# Altium footprint library balenaFinLib.PcbLib: 75 footprints (part 5 of 5)
Each footprint in its own frame and in the unit in brackets; x right, y up, seen from the top. Pads: shape width x height; smd on the part's side, far side on the other; paste and mask are expansions set on the pad; w line width, h text height; cw(c..) or ccw(c..) is an arc to the next point about the centre after c.
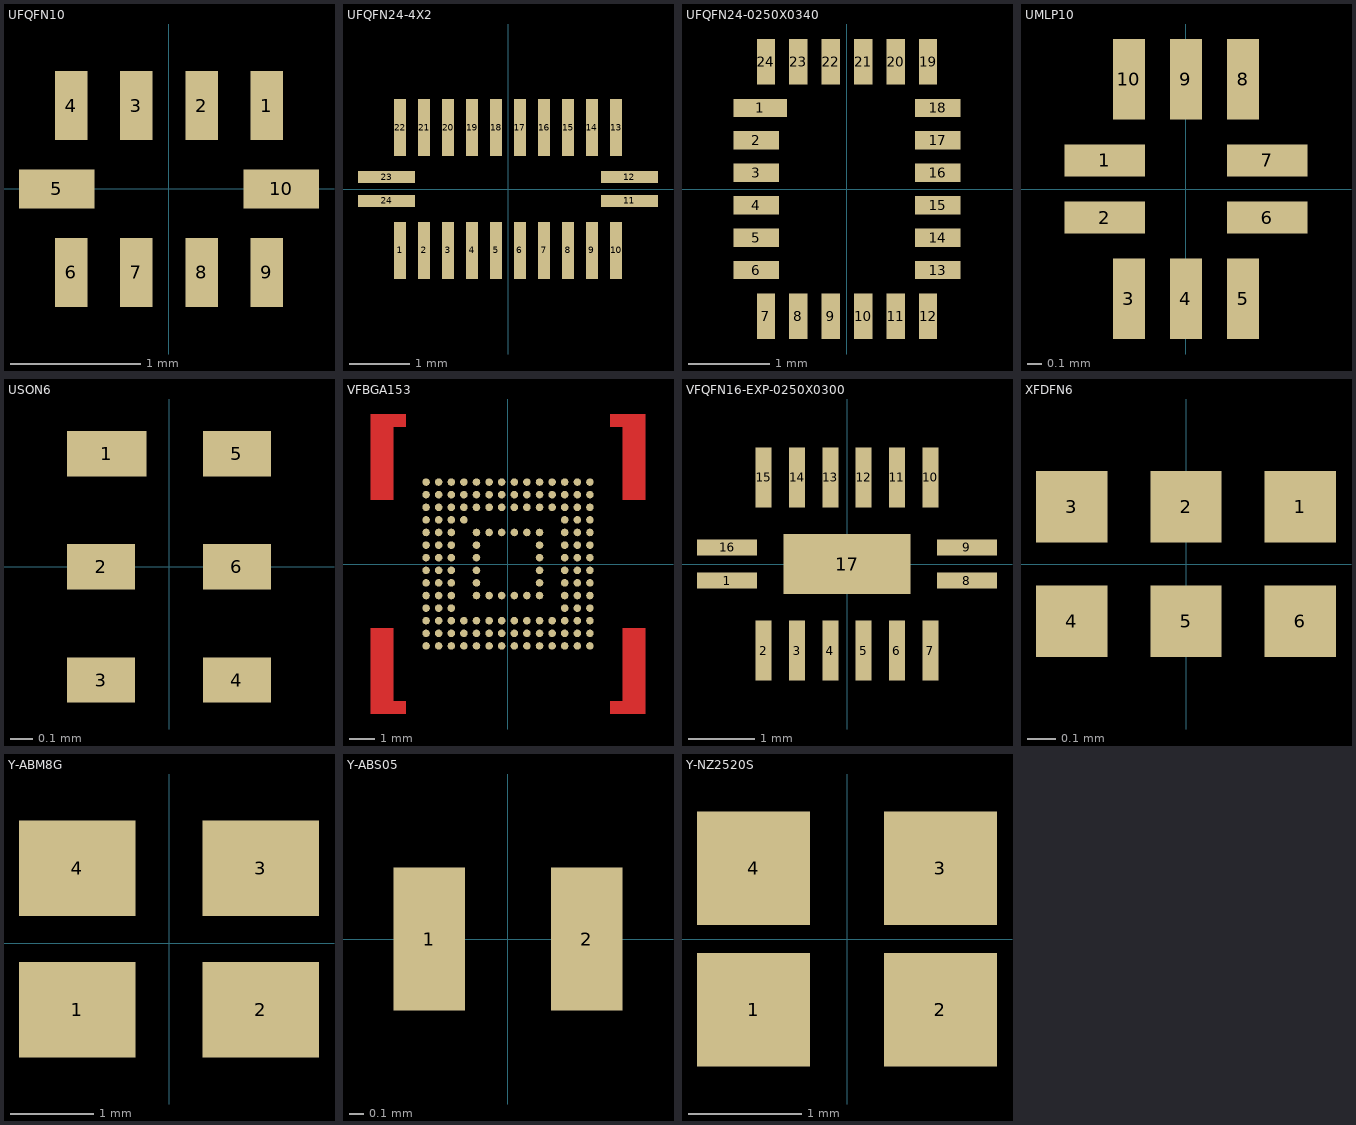
[diagram p4: the footprints below, top view; thin cyan lines are the x and y axes]

## UFQFN10 [mm]
pads (10):
  rect 0.25x0.53 smd mask+0.13: 1(0.75,0.64) 2(0.25,0.64) 3(-0.25,0.64) 4(-0.75,0.64) 6(-0.75,-0.64) 7(-0.25,-0.64) 8(0.25,-0.64) 9(0.75,-0.64)
  rect 0.58x0.3 smd mask+0.13: 5(-0.86,0) 10(0.86,0)
Mechanical 46:
  text "10" at 0.86,0.06 h0.2
  text "5" at -0.86,-0.02 h0.2
  text "9" at 0.75,-0.66 h0.2
  text "4" at -0.75,0.62 h0.2
  text "1" at 0.75,0.62 h0.2
  text "2" at 0.25,0.62 h0.2
  text "3" at -0.25,0.62 h0.2
  text "6" at -0.75,-0.66 h0.2
  text "8" at 0.25,-0.66 h0.2
  text "7" at -0.25,-0.66 h0.2
3D body: height 3.81, standoff 0, extent -1.225,-0.975 1.225,0.975

## UFQFN24-4X2 [mm]
pads (24):
  rect 0.2x0.95 smd: 1(-1.8,-1.025) 2(-1.4,-1.025) 3(-1,-1.025) 4(-0.6,-1.025) 5(-0.2,-1.025) 6(0.2,-1.025) 7(0.6,-1.025) 8(1,-1.025) 9(1.4,-1.025) 10(1.8,-1.025) 13(1.8,1.025) 14(1.4,1.025) 15(1,1.025) 16(0.6,1.025) 17(0.2,1.025) 18(-0.2,1.025) 19(-0.6,1.025) 20(-1,1.025) 21(-1.4,1.025) 22(-1.8,1.025)
  rect 0.95x0.2 smd mask+0.15: 11(2.025,-0.2) 12(2.025,0.2) 23(-2.025,0.2) 24(-2.025,-0.2)
Mechanical 46:
  text "10" at 1.9,-1.214 h0.2
  text "24" at -2.037,-0.254 h0.2
  text "23" at -2.037,0.146 h0.2
  text "12" at 2.031,-0.042 h0.2
  text "11" at 2.031,-0.442 h0.2
  text "4" at -0.5,-1.134 h0.2
  text "13" at 1.882,0.871 h0.2
  text "5" at -0.1,-1.134 h0.2
  text "18" at -0.118,0.871 h0.2
  text "14" at 1.482,0.871 h0.2
  text "15" at 1.082,0.871 h0.2
  text "16" at 0.682,0.871 h0.2
  text "17" at 0.282,0.871 h0.2
  text "19" at -0.518,0.871 h0.2
  text "20" at -0.918,0.871 h0.2
  text "21" at -1.318,0.871 h0.2
  text "22" at -1.718,0.871 h0.2
  text "3" at -0.9,-1.134 h0.2
  text "2" at -1.3,-1.134 h0.2
  text "1" at -1.7,-1.134 h0.2
  text "9" at 1.5,-1.134 h0.2
  text "8" at 1.1,-1.134 h0.2
  text "7" at 0.7,-1.134 h0.2
  text "6" at 0.3,-1.134 h0.2
3D body: height 3.81, standoff 0, extent -2.55,-1.55 2.55,1.55

## UFQFN24-0250X0340 [mm]
pads (24):
  rect 0.663x0.225 smd: 1(-1.068,1)
  rect 0.563x0.225 smd: 2(-1.118,0.6) 3(-1.118,0.2) 4(-1.118,-0.2) 5(-1.118,-0.6) 6(-1.118,-1) 13(1.119,-1) 14(1.119,-0.6) 15(1.119,-0.2) 16(1.119,0.2) 17(1.119,0.6) 18(1.119,1)
  rect 0.225x0.563 smd: 7(-1,-1.568) 8(-0.6,-1.568) 9(-0.2,-1.568) 10(0.2,-1.568) 11(0.6,-1.568) 12(1,-1.568) 19(1,1.569) 20(0.6,1.569) 21(0.2,1.569) 22(-0.2,1.569) 23(-0.6,1.569) 24(-1,1.569)
Mechanical 46:
  text "11" at 0.76,-1.568 h0.2
  text "15" at 1.279,-0.2 h0.2
  text "14" at 1.279,-0.6 h0.2
  text "13" at 1.279,-1 h0.2
  text "12" at 1.16,-1.568 h0.2
  text "17" at 1.279,0.6 h0.2
  text "16" at 1.279,0.2 h0.2
  text "3" at -1.038,0.2 h0.2
  text "4" at -1.038,-0.2 h0.2
  text "1" at -0.988,1 h0.2
  text "2" at -1.038,0.6 h0.2
  text "5" at -1.038,-0.6 h0.2
  text "6" at -1.038,-1 h0.2
  text "8" at -0.52,-1.568 h0.2
  text "21" at 0.36,1.569 h0.2
  text "18" at 1.279,1 h0.2
  text "20" at 0.76,1.569 h0.2
  text "23" at -0.44,1.569 h0.2
  text "22" at -0.04,1.569 h0.2
  text "19" at 1.16,1.569 h0.2
  text "9" at -0.12,-1.568 h0.2
  text "10" at 0.36,-1.568 h0.2
  text "7" at -0.92,-1.568 h0.2
  text "24" at -0.84,1.569 h0.2
3D body: height 3.81, standoff 0, extent -1.45,-1.9 1.45,1.9

## UMLP10 [mm]
pads (10):
  rect 0.563x0.225 smd: 1(-0.568,0.2) 2(-0.568,-0.2) 6(0.569,-0.2) 7(0.569,0.2)
  rect 0.225x0.563 smd: 3(-0.4,-0.768) 4(0,-0.768) 5(0.4,-0.768) 8(0.4,0.768) 9(0,0.768) 10(-0.4,0.768)
Mechanical 46:
  text "6" at 0.507,-0.1 h0.2
  text "7" at 0.507,0.3 h0.2
  text "10" at -0.653,1.005 h0.2
  text "2" at -0.693,-0.1 h0.2
  text "1" at -0.693,0.3 h0.2
  text "5" at 0.307,-0.7 h0.2
  text "4" at -0.093,-0.7 h0.2
  text "8" at 0.307,0.9 h0.2
  text "3" at -0.493,-0.7 h0.2
  text "9" at -0.093,0.9 h0.2
3D body: height 3.81, standoff 0, extent -1.1,-1.3 1.1,1.3

## USON6 [mm]
pads (6):
  rect 0.35x0.2 smd: 1(-0.275,0.5)
  rect 0.3x0.2 smd: 2(-0.3,0) 3(-0.3,-0.5) 4(0.3,-0.5) 5(0.3,0.5) 6(0.3,0)
Top Solder:
  pour cut-out: -0.37,0.65
Mechanical 46:
  text "4" at 0.671,-0.603 h0.2
  text "5" at 0.685,0.402 h0.2
3D body "DRY0006A.stp": height 0.58, standoff 0, extent -0.5,-0.725 0.5,0.725

## VFBGA153 [mm]
pads (153):
  round 0.3 smd: A1(-3.25,3.25) A2(-2.75,3.25) A3(-2.25,3.25) A4(-1.75,3.25) A5(-1.25,3.25) A6(-0.75,3.25) A7(-0.25,3.25) A8(0.25,3.25) A9(0.75,3.25) A10(1.25,3.25) A11(1.75,3.25) A12(2.25,3.25) A13(2.75,3.25) A14(3.25,3.25) B1(-3.25,2.75) B2(-2.75,2.75) B3(-2.25,2.75) B4(-1.75,2.75) B5(-1.25,2.75) B6(-0.75,2.75) B7(-0.25,2.75) B8(0.25,2.75) B9(0.75,2.75) B10(1.25,2.75) B11(1.75,2.75) B12(2.25,2.75) B13(2.75,2.75) B14(3.25,2.75) C1(-3.25,2.25) C2(-2.75,2.25) C3(-2.25,2.25) C4(-1.75,2.25) C5(-1.25,2.25) C6(-0.75,2.25) C7(-0.25,2.25) C8(0.25,2.25) C9(0.75,2.25) C10(1.25,2.25) C11(1.75,2.25) C12(2.25,2.25) C13(2.75,2.25) C14(3.25,2.25) D1(-3.25,1.75) D2(-2.75,1.75) D3(-2.25,1.75) D4(-1.75,1.75) D12(2.25,1.75) D13(2.75,1.75) D14(3.25,1.75) E1(-3.25,1.25) E2(-2.75,1.25) E3(-2.25,1.25) E5(-1.25,1.25) E6(-0.75,1.25) E7(-0.25,1.25) E8(0.25,1.25) E9(0.75,1.25) E10(1.25,1.25) E12(2.25,1.25) E13(2.75,1.25) E14(3.25,1.25) F1(-3.25,0.75) F2(-2.75,0.75) F3(-2.25,0.75) F5(-1.25,0.75) F10(1.25,0.75) F12(2.25,0.75) F13(2.75,0.75) F14(3.25,0.75) G1(-3.25,0.25) G2(-2.75,0.25) G3(-2.25,0.25) G5(-1.25,0.25) G10(1.25,0.25) G12(2.25,0.25) G13(2.75,0.25) G14(3.25,0.25) H1(-3.25,-0.25) H2(-2.75,-0.25) H3(-2.25,-0.25) H5(-1.25,-0.25) H10(1.25,-0.25) H12(2.25,-0.25) H13(2.75,-0.25) H14(3.25,-0.25) J1(-3.25,-0.75) J2(-2.75,-0.75) J3(-2.25,-0.75) J5(-1.25,-0.75) J10(1.25,-0.75) J12(2.25,-0.75) J13(2.75,-0.75) J14(3.25,-0.75) K1(-3.25,-1.25) K2(-2.75,-1.25) K3(-2.25,-1.25) K5(-1.25,-1.25) K6(-0.75,-1.25) K7(-0.25,-1.25) K8(0.25,-1.25) K9(0.75,-1.25) K10(1.25,-1.25) K12(2.25,-1.25) K13(2.75,-1.25) K14(3.25,-1.25) L1(-3.25,-1.75) L2(-2.75,-1.75) L3(-2.25,-1.75) L12(2.25,-1.75) L13(2.75,-1.75) L14(3.25,-1.75) M1(-3.25,-2.25) M2(-2.75,-2.25) M3(-2.25,-2.25) M4(-1.75,-2.25) M5(-1.25,-2.25) M6(-0.75,-2.25) M7(-0.25,-2.25) M8(0.25,-2.25) M9(0.75,-2.25) M10(1.25,-2.25) M11(1.75,-2.25) M12(2.25,-2.25) M13(2.75,-2.25) M14(3.25,-2.25) N1(-3.25,-2.75) N2(-2.75,-2.75) N3(-2.25,-2.75) N4(-1.75,-2.75) N5(-1.25,-2.75) N6(-0.75,-2.75) N7(-0.25,-2.75) N8(0.25,-2.75) N9(0.75,-2.75) N10(1.25,-2.75) N11(1.75,-2.75) N12(2.25,-2.75) N13(2.75,-2.75) N14(3.25,-2.75) P1(-3.25,-3.25) P2(-2.75,-3.25) P3(-2.25,-3.25) P4(-1.75,-3.25) P5(-1.25,-3.25) P6(-0.75,-3.25) P7(-0.25,-3.25) P8(0.25,-3.25) P9(0.75,-3.25) P10(1.25,-3.25) P11(1.75,-3.25) P12(2.25,-3.25) P13(2.75,-3.25) P14(3.25,-3.25)
Top Layer:
  region: 4.05,-5.95 4.05,-5.45 4.55,-5.45 4.55,-2.55 5.45,-2.55 5.45,-5.95
  region: -4.05,5.95 -4.05,5.45 -4.55,5.45 -4.55,2.55 -5.45,2.55 -5.45,5.95
  region: 4.05,5.95 4.05,5.45 4.55,5.45 4.55,2.55 5.45,2.55 5.45,5.95
  region: -4.05,-5.95 -4.05,-5.45 -4.55,-5.45 -4.55,-2.55 -5.45,-2.55 -5.45,-5.95
  region: -4.05,5.95 -4.05,5.45 -4.55,5.45 -4.55,2.55 -5.45,2.55 -5.45,5.95
  region: 4.05,5.95 4.05,5.45 4.55,5.45 4.55,2.55 5.45,2.55 5.45,5.95
  region: -4.05,-5.95 -4.05,-5.45 -4.55,-5.45 -4.55,-2.55 -5.45,-2.55 -5.45,-5.95
  region: 4.05,-5.95 4.05,-5.45 4.55,-5.45 4.55,-2.55 5.45,-2.55 5.45,-5.95
Mechanical 46:
  text "G1" at -3.25,0.17 h0.1
  text "G2" at -2.75,0.17 h0.1
  text "G3" at -2.25,0.17 h0.1
  text "H5" at -1.25,-0.33 h0.1
  text "J1" at -3.25,-0.83 h0.1
  text "J2" at -2.75,-0.83 h0.1
  text "J3" at -2.25,-0.83 h0.1
  text "K5" at -1.25,-1.33 h0.1
  text "C1" at -3.25,2.17 h0.1
  text "C2" at -2.75,2.17 h0.1
  text "P10" at 1.25,-3.37 h0.1
  text "A7" at -0.25,3.17 h0.1
  text "C5" at -1.25,2.17 h0.1
  text "E5" at -1.25,1.17 h0.1
  text "E8" at 0.25,1.17 h0.1
  text "E9" at 0.75,1.17 h0.1
  text "E10" at 1.25,1.13 h0.1
  text "F10" at 1.25,0.63 h0.1
  text "G10" at 1.25,0.13 h0.1
  text "K6" at -0.75,-1.33 h0.1
  text "K7" at -0.25,-1.33 h0.1
  text "K10" at 1.25,-1.37 h0.1
  text "J5" at -1.25,-0.83 h0.1
  text "A6" at -0.75,3.17 h0.1
  text "A3" at -2.25,3.17 h0.1
  text "A4" at -1.75,3.17 h0.1
  text "A5" at -1.25,3.17 h0.1
  text "B2" at -2.75,2.67 h0.1
  text "A1" at -3.25,3.17 h0.1
  text "L1" at -3.25,-1.83 h0.1
  text "L2" at -2.75,-1.83 h0.1
  text "L3" at -2.25,-1.83 h0.1
  text "M5" at -1.25,-2.33 h0.1
  text "M6" at -0.75,-2.33 h0.1
  text "N7" at -0.25,-2.83 h0.1
  text "P7" at -0.25,-3.33 h0.1
  text "B3" at -2.25,2.67 h0.1
  text "B4" at -1.75,2.67 h0.1
  text "B5" at -1.25,2.67 h0.1
  text "B6" at -0.75,2.67 h0.1
  text "A10" at 1.25,3.13 h0.1
  text "A11" at 1.75,3.13 h0.1
  text "A12" at 2.25,3.13 h0.1
  text "A13" at 2.75,3.13 h0.1
  text "A14" at 3.25,3.13 h0.1
  text "A2" at -2.75,3.17 h0.1
  text "A8" at 0.25,3.17 h0.1
  text "A9" at 0.75,3.17 h0.1
  text "B1" at -3.25,2.67 h0.1
  text "B10" at 1.25,2.63 h0.1
  text "B11" at 1.75,2.63 h0.1
  text "B12" at 2.25,2.63 h0.1
  text "B13" at 2.75,2.63 h0.1
  text "B14" at 3.25,2.63 h0.1
  text "B7" at -0.25,2.67 h0.1
  text "B8" at 0.25,2.67 h0.1
  text "B9" at 0.75,2.67 h0.1
  text "C10" at 1.25,2.13 h0.1
  text "C11" at 1.75,2.13 h0.1
  text "C12" at 2.25,2.13 h0.1
  text "C13" at 2.75,2.13 h0.1
  text "C14" at 3.25,2.13 h0.1
  text "C3" at -2.25,2.17 h0.1
  text "C7" at -0.25,2.17 h0.1
  text "C8" at 0.25,2.17 h0.1
  text "C9" at 0.75,2.17 h0.1
  text "D1" at -3.25,1.67 h0.1
  text "D12" at 2.25,1.63 h0.1
  text "D13" at 2.75,1.63 h0.1
  text "D14" at 3.25,1.63 h0.1
  text "D2" at -2.75,1.67 h0.1
  text "D3" at -2.25,1.67 h0.1
  text "E1" at -3.25,1.17 h0.1
  text "E12" at 2.25,1.13 h0.1
  text "E13" at 2.75,1.13 h0.1
  text "E14" at 3.25,1.13 h0.1
  text "E2" at -2.75,1.17 h0.1
  text "E3" at -2.25,1.17 h0.1
  text "F1" at -3.25,0.67 h0.1
  text "F12" at 2.25,0.63 h0.1
  text "F13" at 2.75,0.63 h0.1
  text "F14" at 3.25,0.63 h0.1
  text "F2" at -2.75,0.67 h0.1
  text "F3" at -2.25,0.67 h0.1
  text "G12" at 2.25,0.13 h0.1
  text "G13" at 2.75,0.13 h0.1
  text "G14" at 3.25,0.13 h0.1
  text "H1" at -3.25,-0.33 h0.1
  text "H12" at 2.25,-0.37 h0.1
  text "H13" at 2.75,-0.37 h0.1
  text "H14" at 3.25,-0.37 h0.1
  text "H2" at -2.75,-0.33 h0.1
  text "H3" at -2.25,-0.33 h0.1
  text "J12" at 2.25,-0.87 h0.1
  text "J13" at 2.75,-0.87 h0.1
  text "J14" at 3.25,-0.87 h0.1
  text "K1" at -3.25,-1.33 h0.1
  text "K12" at 2.25,-1.37 h0.1
  text "K13" at 2.75,-1.37 h0.1
  text "K14" at 3.25,-1.37 h0.1
  text "K2" at -2.75,-1.33 h0.1
  text "K3" at -2.25,-1.33 h0.1
  text "L12" at 2.25,-1.87 h0.1
  text "L13" at 2.75,-1.87 h0.1
  text "L14" at 3.25,-1.87 h0.1
  text "M1" at -3.25,-2.33 h0.1
  text "M10" at 1.25,-2.37 h0.1
  text "M11" at 1.75,-2.37 h0.1
  text "M12" at 2.25,-2.37 h0.1
  text "M13" at 2.75,-2.37 h0.1
  text "M14" at 3.25,-2.37 h0.1
  text "M2" at -2.75,-2.33 h0.1
  text "M3" at -2.25,-2.33 h0.1
  text "M7" at -0.25,-2.33 h0.1
  text "M8" at 0.25,-2.33 h0.1
  text "M9" at 0.75,-2.33 h0.1
  text "N10" at 1.25,-2.87 h0.1
  text "N11" at 1.75,-2.87 h0.1
  text "N12" at 2.25,-2.87 h0.1
  text "N13" at 2.75,-2.87 h0.1
  text "N14" at 3.25,-2.87 h0.1
  text "N3" at -2.25,-2.83 h0.1
  text "N6" at -0.75,-2.83 h0.1
  text "N8" at 0.25,-2.83 h0.1
  text "N9" at 0.75,-2.83 h0.1
  text "P1" at -3.25,-3.33 h0.1
  text "P11" at 1.75,-3.37 h0.1
  text "P12" at 2.25,-3.37 h0.1
  text "P13" at 2.75,-3.37 h0.1
  text "P14" at 3.25,-3.37 h0.1
  text "P2" at -2.75,-3.33 h0.1
  text "P8" at 0.25,-3.33 h0.1
  text "P9" at 0.75,-3.33 h0.1
  text "D4" at -1.75,1.67 h0.1
  text "C4" at -1.75,2.17 h0.1
  text "E7" at -0.25,1.17 h0.1
  text "G5" at -1.25,0.17 h0.1
  text "H10" at 1.25,-0.37 h0.1
  text "K8" at 0.25,-1.33 h0.1
  text "N1" at -3.25,-2.83 h0.1
  text "N2" at -2.75,-2.83 h0.1
  text "N5" at -1.25,-2.83 h0.1
  text "P4" at -1.75,-3.33 h0.1
  text "P6" at -0.75,-3.33 h0.1
  text "F5" at -1.25,0.67 h0.1
  text "E6" at -0.75,1.17 h0.1
  text "C6" at -0.75,2.17 h0.1
  text "M4" at -1.75,-2.33 h0.1
  text "N4" at -1.75,-2.83 h0.1
  text "P3" at -2.25,-3.33 h0.1
  text "J10" at 1.25,-0.87 h0.1
  text "P5" at -1.25,-3.33 h0.1
  text "K9" at 0.75,-1.33 h0.1
3D body: height 3.81, standoff 0, extent -5.95,-6.7 5.95,6.7

## VFQFN16-EXP-0250X0300 [mm]
pads (17):
  rect 0.9x0.24 smd mask+0.15: 1(-1.8,-0.25) 8(1.8,-0.25) 9(1.8,0.25) 16(-1.8,0.25)
  rect 0.24x0.9 smd mask+0.15: 2(-1.25,-1.3) 3(-0.75,-1.3) 4(-0.25,-1.3) 5(0.25,-1.3) 6(0.75,-1.3) 7(1.25,-1.3) 10(1.25,1.3) 11(0.75,1.3) 12(0.25,1.3) 13(-0.25,1.3) 14(-0.75,1.3) 15(-1.25,1.3)
  rect 1.9x0.9 smd: 17(0,0)
Mechanical 46:
  text "1" at -1.88,-0.35 h0.2
  text "7" at 1.17,-1.4 h0.2
  text "4" at -0.33,-1.4 h0.2
  text "11" at 0.59,1.2 h0.2
  text "14" at -0.91,1.2 h0.2
  text "9" at 1.72,0.15 h0.2
  text "12" at 0.09,1.2 h0.2
  text "6" at 0.67,-1.4 h0.2
  text "3" at -0.83,-1.4 h0.2
  text "5" at 0.17,-1.4 h0.2
  text "2" at -1.33,-1.4 h0.2
  text "17" at -0.06,0 h0.2
  text "8" at 1.72,-0.35 h0.2
  text "15" at -1.41,1.2 h0.2
  text "16" at -1.96,0.15 h0.2
  text "13" at -0.41,1.2 h0.2
  text "10" at 1.09,1.2 h0.2
3D body: height 3.81, standoff 0, extent -2.25,-1.75 2.25,1.75

## XFDFN6 [mm]
pads (6):
  rect 0.25x0.25 smd: 1(0.4,0.2) 2(0,0.2) 3(-0.4,0.2) 4(-0.4,-0.2) 5(0,-0.2) 6(0.4,-0.2)
Mechanical 46:
  text "6" at 0.48,-0.2 h0.2
  text "1" at 0.48,0.2 h0.2
  text "3" at -0.32,0.2 h0.2
  text "5" at 0.08,-0.2 h0.2
  text "2" at 0.08,0.2 h0.2
  text "4" at -0.32,-0.2 h0.2
3D body: height 3.81, standoff 0, extent -0.75,-0.55 0.75,0.55

## Y-ABM8G [mm]
pads (4):
  rect 1.4x1.15 smd: 1(-1.1,-0.8) 2(1.1,-0.8) 3(1.1,0.9) 4(-1.1,0.9)
Mechanical 46:
  text "2" at 1.174,-0.895 h0.2
  text "4" at -1.056,0.769 h0.2
  text "3" at 1.144,0.769 h0.2
  text "1" at -1.026,-0.895 h0.2
3D body: height 3.81, standoff 0, extent -2.1,-1.7 2.1,1.7

## Y-ABS05 [mm]
pads (2):
  rect 0.5x1 smd: 1(-0.55,0) 2(0.55,0)
Mechanical 46:
  text "2" at 0.63,0 h0.2
  text "1" at -0.47,0 h0.2
3D body: height 3.81, standoff 0, extent -1,-0.7 1,0.7

## Y-NZ2520S [mm]
pads (4):
  rect 1x1 smd mask+0.13: 1(-0.825,-0.625) 2(0.825,-0.625) 3(0.825,0.625) 4(-0.825,0.625)
Mechanical 46:
  text "4" at -0.905,0.625 h0.2
  text "2" at 0.745,-0.625 h0.2
  text "3" at 0.745,0.625 h0.2
  text "1" at -0.905,-0.625 h0.2
3D body: height 3.81, standoff 0, extent -1.525,-1.325 1.525,1.325